# EAGLE library part HTS221 (library chips_old)
Capacitive humidity sensor 2mmx2mm
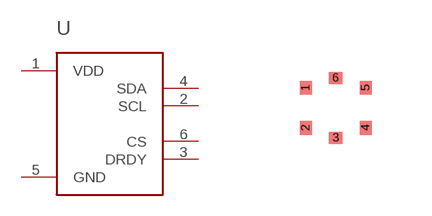
[diagram p29: symbol with the pads of HLGA-6; footprint HLGA-6]

Designator prefix -

## HTS221  [HLGA-6]
1  VDD
2  SCL
3  DRDY
4  SDA
5  GND
6  CS

## Footprint HLGA-6 (pad centres in mm)
smd 0.3 x 0.35: 1 -0.75,0.5; 2 -0.75,-0.5; 4 0.75,-0.5; 5 0.75,0.5
smd 0.35 x 0.3: 3 0,-0.75; 6 0,0.75